# Altium schematic symbol library nanoArduino.SchLib: 11 symbols
Pins are listed as number, name and electrical type; pins without a type are passive.

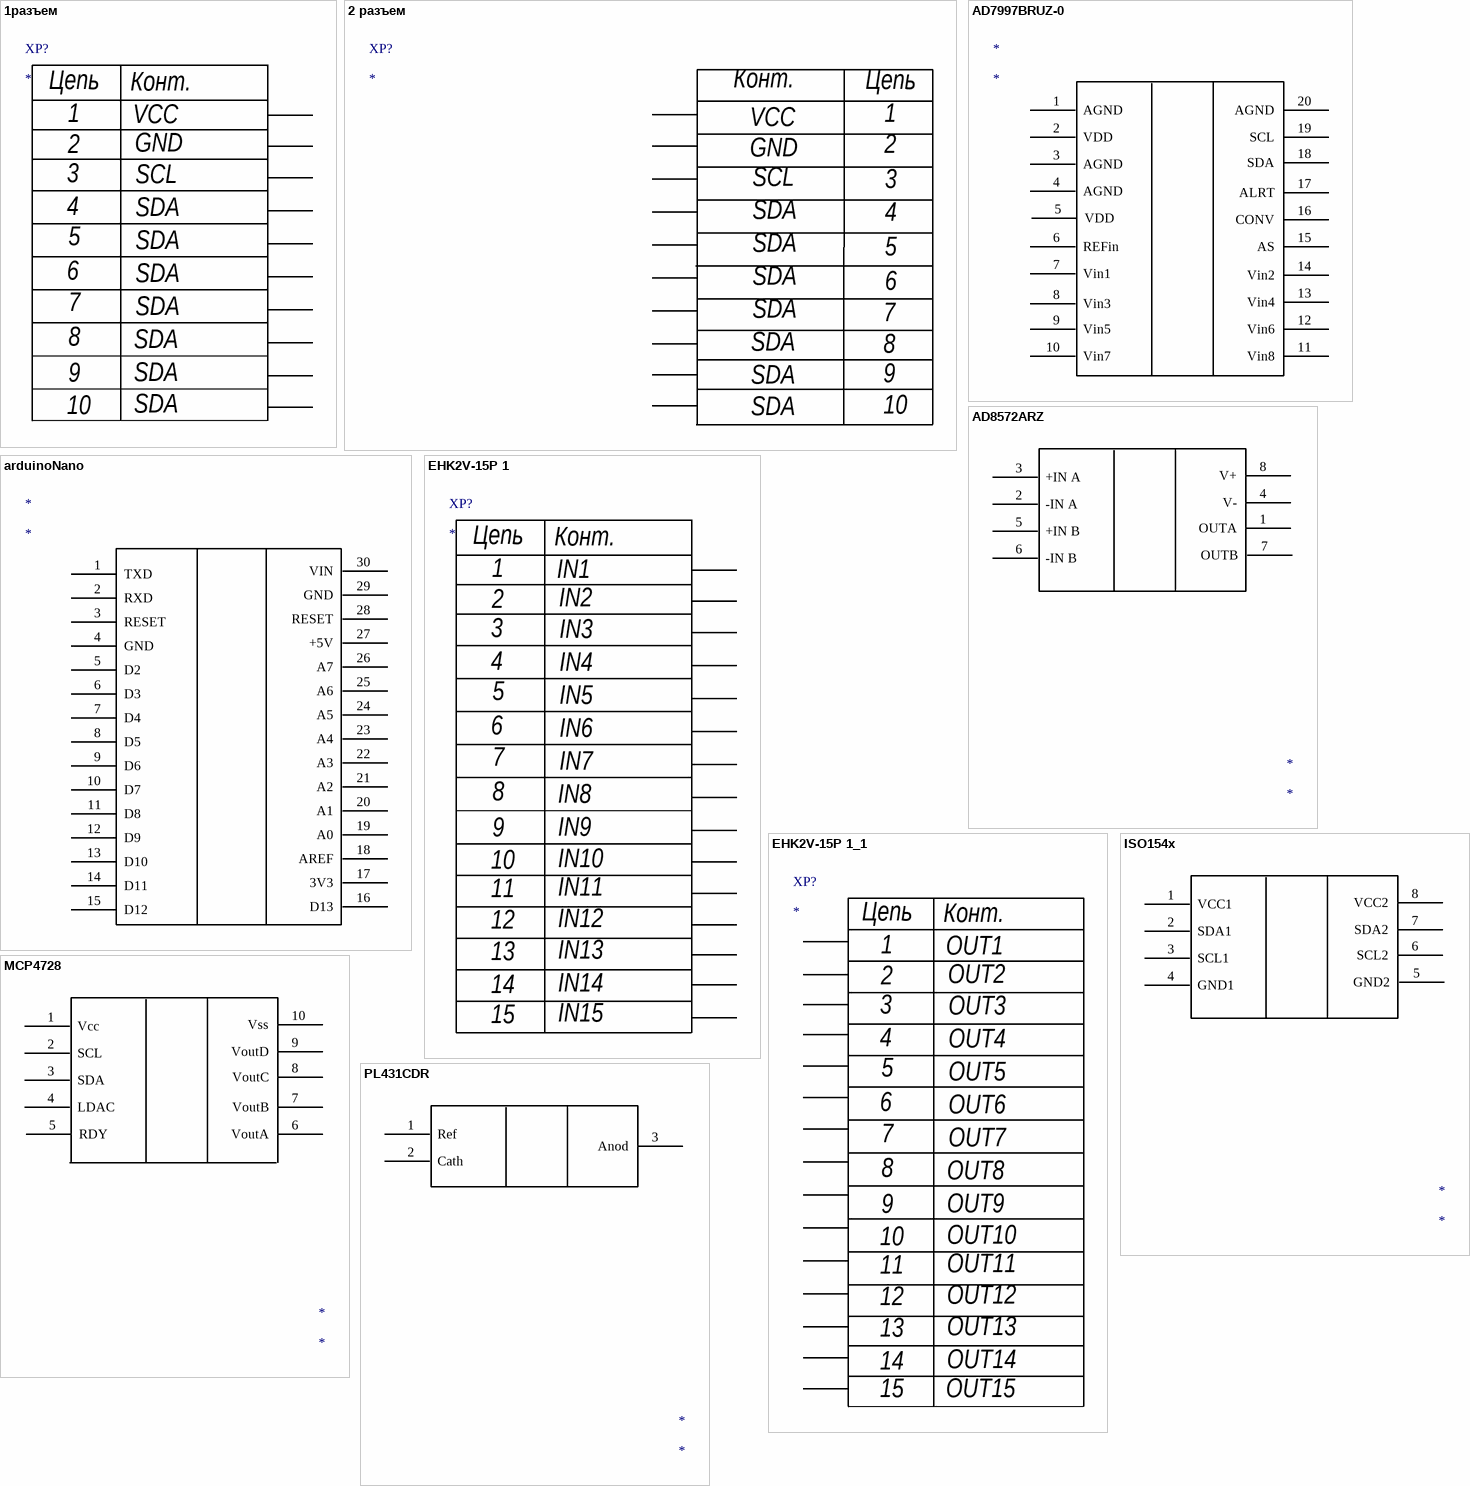
[diagram p0: symbols 1разъем to PL431CDR]

## 1разъем
designator XP?
footprint PLS разъемы 2x
pins: 1, 2, 2, 2, 2, 2, 2, 2, 2, 2
text: Цепь; Конт.; VCC; GND; 3; SCL; 4; SDA; 5; 6; 7; 8; 9; 10

## 2 разъем
designator XP?
footprint PLS разъемы 2x
pins: 1, 2, 2, 2, 2, 2, 2, 2, 2, 2
text: Конт.; Цепь; VCC; GND; SCL; 3; SDA; 4; 5; 6; 7; 8; 9; 10

## AD7997BRUZ-0
designator *
pins: 1 AGND, 2 VDD, 3 AGND, 4 AGND, 5 VDD, 6 REFin, 7 Vin1, 8 Vin3, 9 Vin5, 10 Vin7, 11 Vin8, 12 Vin6, 13 Vin4, 14 Vin2, 15 AS, 16 CONV, 17 ALRT, 18 SDA, 19 SCL, 20 AGND

## AD8572ARZ
designator *
pins: 1 OUTA, 2 -IN A, 3 +IN A, 4 V-, 5 +IN B, 6 -IN B, 7 OUTB, 8 V+

## arduinoNano
designator *
footprint Arduino nano (arduino nano)
pins: 1 TXD, 2 RXD, 3 RESET, 4 GND, 5 D2, 6 D3, 7 D4, 8 D5, 9 D6, 10 D7, 11 D8, 12 D9, 13 D10, 14 D11, 15 D12, 16 D13, 17 3V3, 18 AREF, 19 A0, 20 A1, 21 A2, 22 A3, 23 A4, 24 A5, 25 A6, 26 A7, 27 +5V, 28 RESET, 29 GND, 30 VIN

## EHK2V-15P 1
designator XP?
footprint PLS разъемы 2x
pins: 1, 2, 2, 2, 2, 2, 2, 2, 2, 2, 2, 2, 2, 2, 2
text: Цепь; Конт.; IN1; IN2; 3; IN3; 4; IN4; 5; IN5; 6; IN6; 7; IN7; 8; IN8; 9; IN9; IN10; 10; 11; IN11; IN12; 12; 13; IN13; 14; IN14; 15; IN15

## EHK2V-15P 1_1
designator XP?
footprint PLS разъемы 2x
pins: 1, 2, 2, 2, 2, 2, 2, 2, 2, 2, 2, 2, 2, 2, 2
text: Цепь; Конт.; OUT1; OUT2; 3; OUT3; 4; OUT4; 5; OUT5; 6; OUT6; 7; OUT7; 8; OUT8; 9; OUT9; 10; OUT10; 11; OUT11; 12; OUT12; OUT13; 13; 14; OUT14; 15; OUT15

## ISO154x
designator *
pins: 1 VCC1, 2 SDA1, 3 SCL1, 4 GND1, 5 GND2, 6 SCL2, 7 SDA2, 8 VCC2

## MCP4728
designator *
pins: 1 Vcc, 2 SCL, 3 SDA, 4 LDAC, 5 RDY, 6 VoutA, 7 VoutB, 8 VoutC, 9 VoutD, 10 Vss

## PL431CDR
designator *
footprint 1437565-5
pins: 1 Ref, 2 Cath, 3 Anod

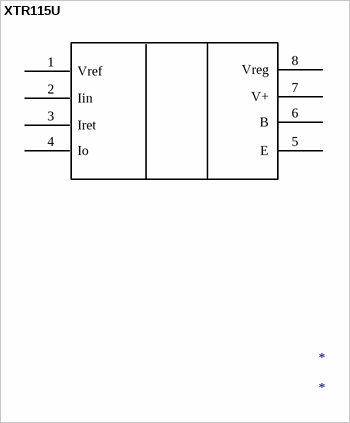
[diagram p1: symbol XTR115U]

## XTR115U
designator *
pins: 1 Vref, 2 Iin, 3 Iret, 4 Io, 5 E, 6 B, 7 V+, 8 Vreg